# EAGLE library part PINHD-2X3 (library SquantorConnectors)
PIN HEADER
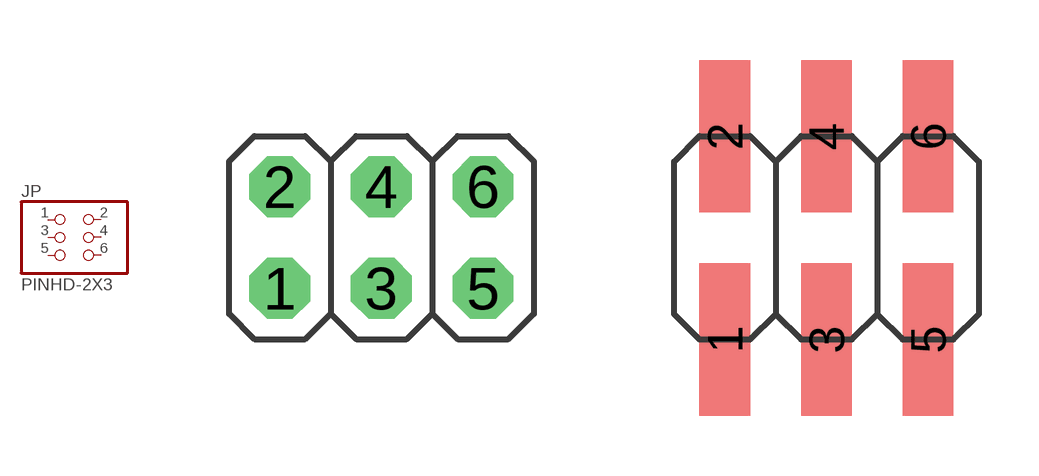
[diagram p25: symbol with the pads of 2X03; footprints 2X03, 2X03SMD]

Designator prefix JP

## PINHD-2X3TH_NORMAL  [2X03]
1  1  pas
2  2  pas
3  3  pas
4  4  pas
5  5  pas
6  6  pas

## PINHD-2X3SMD_NORMAL  [2X03SMD]
Pads as for 2X03

## Footprint 2X03 (pad centres in mm)
PIN HEADER
drill 1.016 octagon: 1 -2.54,-1.27; 2 -2.54,1.27; 3 0,-1.27; 4 0,1.27; 5 2.54,-1.27; 6 2.54,1.27

## Footprint 2X03SMD (pad centres in mm)
smd 1.27 x 3.81: 1 -2.54,-2.54; 2 -2.54,2.54; 3 0,-2.54; 4 0,2.54; 5 2.54,-2.54; 6 2.54,2.54